# Altium footprint library Connector_IDC.PcbLib: 182 footprints (part 2 of 12)
Each footprint in its own frame and in the unit in brackets; x right, y up, seen from the top. Pads: shape width x height; smd on the part's side, far side on the other; paste and mask are expansions set on the pad; w line width, h text height; cw(c..) or ccw(c..) is an arc to the next point about the centre after c.
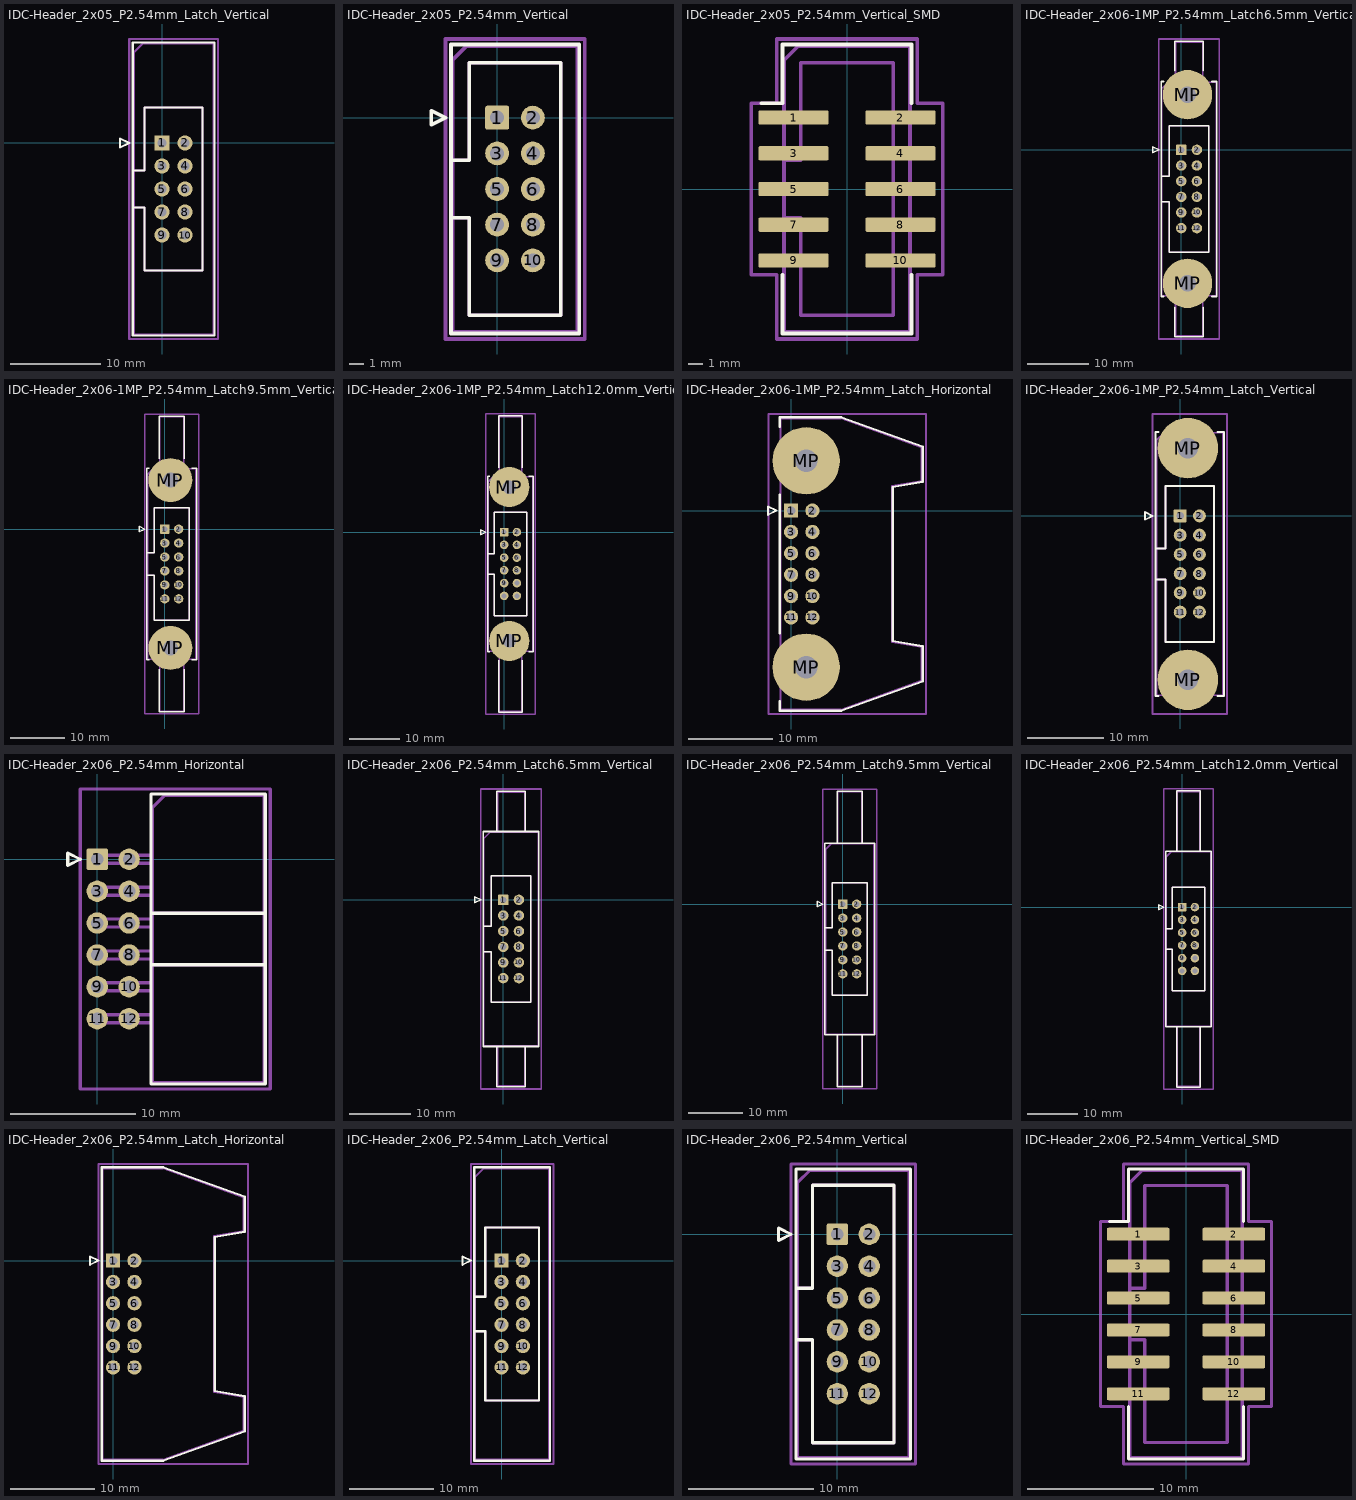
[diagram p1: the footprints below, top view; thin cyan lines are the x and y axes]

## IDC-Header_2x05_P2.54mm_Latch_Vertical [mm]
pads (10):
  rrect15% 1.7x1.7 hole 1: 1(0,0)
  round 1.7 hole 1: 2(2.54,0) 3(0,-2.54) 4(2.54,-2.54) 5(0,-5.08) 6(2.54,-5.08) 7(0,-7.62) 8(2.54,-7.62) 9(0,-10.16) 10(2.54,-10.16)
F.SilkS:
  lines w0.254: -3.24,-7.13 -1.93,-7.13 -1.93,-14.08 4.47,-14.08 4.47,3.92 -1.93,3.92 -1.93,-3.03 -3.24,-3.03 ; -4.63,-0.5 -3.63,0 -4.63,0.5 -4.63,-0.5 ; -3.24,-21.24 5.78,-21.24 5.78,11.08 -3.24,11.08 -3.24,-21.24
Top Assembly:
  lines w0.254: -3.13,-7.13 -1.93,-7.13 -1.93,-14.08 4.47,-14.08 4.47,3.92 -1.93,3.92 -1.93,-3.03 -3.13,-3.03 ; -3.13,-21.13 5.67,-21.13 5.67,10.97 -2.13,10.97 -3.13,9.97 -3.13,-21.13
  text "'.Designator'" at 2.11,-9.127 h1
Top Courtyard:
  lines w0.254: -3.63,-21.63 6.17,-21.63 6.17,11.47 -3.63,11.47 -3.63,-21.63
Top Designator:
  text ".Designator" at -6.848,-5.588 h1.52

## IDC-Header_2x05_P2.54mm_Vertical [mm]
pads (10):
  rrect15% 1.7x1.7 hole 1: 1(0,0)
  round 1.7 hole 1: 2(2.54,0) 3(0,-2.54) 4(2.54,-2.54) 5(0,-5.08) 6(2.54,-5.08) 7(0,-7.62) 8(2.54,-7.62) 9(0,-10.16) 10(2.54,-10.16)
F.SilkS:
  lines w0.254: -3.29,-7.13 -1.98,-7.13 -1.98,-14.07 4.52,-14.07 4.52,3.91 -1.98,3.91 -1.98,-3.03 -3.29,-3.03 ; -4.68,-0.5 -3.68,0 -4.68,0.5 -4.68,-0.5 ; -3.29,-15.37 5.83,-15.37 5.83,5.21 -3.29,5.21 -3.29,-15.37
Top Assembly:
  lines w0.254: -3.18,-7.13 -1.98,-7.13 -1.98,-14.07 4.52,-14.07 4.52,3.91 -1.98,3.91 -1.98,-3.03 -3.18,-3.03 ; -3.18,-15.26 5.72,-15.26 5.72,5.1 -2.18,5.1 -3.18,4.1 -3.18,-15.26
  text "'.Designator'" at 2.11,-9.127 h1
Top Courtyard:
  lines w0.254: -3.68,-15.76 6.22,-15.76 6.22,5.6 -3.68,5.6 -3.68,-15.76
Top Designator:
  text ".Designator" at -6.848,-5.588 h1.52

## IDC-Header_2x05_P2.54mm_Vertical_SMD [mm]
pads (10):
  rrect25% 5x1.02 smd: 1(-3.8,5.08) 2(3.8,5.08) 3(-3.8,2.54) 4(3.8,2.54) 5(-3.8,0) 6(3.8,0) 7(-3.8,-2.54) 8(3.8,-2.54) 9(-3.8,-5.08) 10(3.8,-5.08)
F.SilkS:
  lines w0.254: -6.085,6.09 -4.585,6.09 -4.585,10.27 4.585,10.27 4.585,6.09 ; -4.585,-6.09 -4.585,-10.27 4.585,-10.27 4.585,-6.09
Top Assembly:
  lines w0.254: -4.475,-2.05 -3.275,-2.05 -3.275,-8.96 3.275,-8.96 3.275,8.96 -3.275,8.96 -3.275,2.05 -4.475,2.05 ; -4.475,-10.16 4.475,-10.16 4.475,10.16 -3.475,10.16 -4.475,9.16 -4.475,-10.16
  text "'.Designator'" at 0.84,-4.047 h1
Top Courtyard:
  lines w0.254: -6.8,-6.09 -4.98,-6.09 -4.98,-10.66 4.98,-10.66 4.98,-6.09 6.8,-6.09 6.8,6.09 4.98,6.09 4.98,10.66 -4.98,10.66 -4.98,6.09 -6.8,6.09 -6.8,-6.09
Top Designator:
  text ".Designator" at -7.618,-0.508 h1.52

## IDC-Header_2x06-1MP_P2.54mm_Latch6.5mm_Vertical [mm]
pads (14):
  rrect15% 1.7x1.7 hole 1: 1(0,0)
  round 1.7 hole 1: 2(2.54,0) 3(0,-2.54) 4(2.54,-2.54) 5(0,-5.08) 6(2.54,-5.08) 7(0,-7.62) 8(2.54,-7.62) 9(0,-10.16) 10(2.54,-10.16) 11(0,-12.7) 12(2.54,-12.7)
  round 8 hole 2.69: MP(1.02,-21.64) MP(1.02,8.94)
F.SilkS:
  lines w0.254: -3.24,-8.4 -1.93,-8.4 -1.93,-16.62 4.47,-16.62 4.47,3.92 -1.93,3.92 -1.93,-4.3 -3.24,-4.3 ; -2.87,-23.78 -3.24,-23.78 -3.24,11.08 -2.87,11.08 ; -1.04,-25.53 -1.04,-30.28 3.58,-30.28 3.58,-25.53 ; -1.04,12.83 -1.04,17.58 3.58,17.58 3.58,12.83 ; 4.91,-23.78 5.78,-23.78 5.78,11.08 4.91,11.08 ; -4.63,-0.5 -3.63,0 -4.63,0.5 -4.63,-0.5
Top Assembly:
  lines w0.254: -3.13,-8.4 -1.93,-8.4 -1.93,-16.62 4.47,-16.62 4.47,3.92 -1.93,3.92 -1.93,-4.3 -3.13,-4.3 ; -0.93,-23.67 -0.93,-30.17 3.47,-30.17 3.47,-23.67 ; -0.93,10.97 -0.93,17.47 3.47,17.47 3.47,10.97 ; -3.13,-23.67 5.67,-23.67 5.67,10.97 -2.13,10.97 -3.13,9.97 -3.13,-23.67
  text "'.Designator'" at 2.11,-10.397 h1
Top Courtyard:
  lines w0.254: -3.63,-30.67 6.17,-30.67 6.17,17.97 -3.63,17.97 -3.63,-30.67
Top Designator:
  text ".Designator" at -6.848,-6.858 h1.52

## IDC-Header_2x06-1MP_P2.54mm_Latch9.5mm_Vertical [mm]
pads (14):
  rrect15% 1.7x1.7 hole 1: 1(0,0)
  round 1.7 hole 1: 2(2.54,0) 3(0,-2.54) 4(2.54,-2.54) 5(0,-5.08) 6(2.54,-5.08) 7(0,-7.62) 8(2.54,-7.62) 9(0,-10.16) 10(2.54,-10.16) 11(0,-12.7) 12(2.54,-12.7)
  round 8 hole 2.69: MP(1.02,-21.64) MP(1.02,8.94)
F.SilkS:
  lines w0.254: -3.24,-8.4 -1.93,-8.4 -1.93,-16.62 4.47,-16.62 4.47,3.92 -1.93,3.92 -1.93,-4.3 -3.24,-4.3 ; -2.87,-23.78 -3.24,-23.78 -3.24,11.08 -2.87,11.08 ; -1.04,-25.53 -1.04,-33.28 3.58,-33.28 3.58,-25.53 ; -1.04,12.83 -1.04,20.58 3.58,20.58 3.58,12.83 ; 4.91,-23.78 5.78,-23.78 5.78,11.08 4.91,11.08 ; -4.63,-0.5 -3.63,0 -4.63,0.5 -4.63,-0.5
Top Assembly:
  lines w0.254: -3.13,-8.4 -1.93,-8.4 -1.93,-16.62 4.47,-16.62 4.47,3.92 -1.93,3.92 -1.93,-4.3 -3.13,-4.3 ; -0.93,-23.67 -0.93,-33.17 3.47,-33.17 3.47,-23.67 ; -0.93,10.97 -0.93,20.47 3.47,20.47 3.47,10.97 ; -3.13,-23.67 5.67,-23.67 5.67,10.97 -2.13,10.97 -3.13,9.97 -3.13,-23.67
  text "'.Designator'" at 2.11,-10.397 h1
Top Courtyard:
  lines w0.254: -3.63,-33.67 6.17,-33.67 6.17,20.97 -3.63,20.97 -3.63,-33.67
Top Designator:
  text ".Designator" at -6.848,-6.858 h1.52

## IDC-Header_2x06-1MP_P2.54mm_Latch12.0mm_Vertical [mm]
pads (14):
  rrect15% 1.7x1.7 hole 1: 1(0,0)
  round 1.7 hole 1: 2(2.54,0) 3(0,-2.54) 4(2.54,-2.54) 5(0,-5.08) 6(2.54,-5.08) 7(0,-7.62) 8(2.54,-7.62) 9(0,-10.16) 10(2.54,-10.16) 11(0,-12.7) 12(2.54,-12.7)
  round 8 hole 2.69: MP(1.02,-21.64) MP(1.02,8.94)
F.SilkS:
  lines w0.254: -3.24,-8.4 -1.93,-8.4 -1.93,-16.62 4.47,-16.62 4.47,3.92 -1.93,3.92 -1.93,-4.3 -3.24,-4.3 ; -2.87,-23.78 -3.24,-23.78 -3.24,11.08 -2.87,11.08 ; -1.04,-25.53 -1.04,-35.78 3.58,-35.78 3.58,-25.53 ; -1.04,12.83 -1.04,23.08 3.58,23.08 3.58,12.83 ; 4.91,-23.78 5.78,-23.78 5.78,11.08 4.91,11.08 ; -4.63,-0.5 -3.63,0 -4.63,0.5 -4.63,-0.5
Top Assembly:
  lines w0.254: -3.13,-8.4 -1.93,-8.4 -1.93,-16.62 4.47,-16.62 4.47,3.92 -1.93,3.92 -1.93,-4.3 -3.13,-4.3 ; -0.93,-23.67 -0.93,-35.67 3.47,-35.67 3.47,-23.67 ; -0.93,10.97 -0.93,22.97 3.47,22.97 3.47,10.97 ; -3.13,-23.67 5.67,-23.67 5.67,10.97 -2.13,10.97 -3.13,9.97 -3.13,-23.67
  text "'.Designator'" at 2.11,-10.397 h1
Top Courtyard:
  lines w0.254: -3.63,-36.17 6.17,-36.17 6.17,23.47 -3.63,23.47 -3.63,-36.17
Top Designator:
  text ".Designator" at -6.848,-6.858 h1.52

## IDC-Header_2x06-1MP_P2.54mm_Latch_Horizontal [mm]
pads (14):
  rrect15% 1.7x1.7 hole 1: 1(0,0)
  round 1.7 hole 1: 2(2.54,0) 3(0,-2.54) 4(2.54,-2.54) 5(0,-5.08) 6(2.54,-5.08) 7(0,-7.62) 8(2.54,-7.62) 9(0,-10.16) 10(2.54,-10.16) 11(0,-12.7) 12(2.54,-12.7)
  round 8 hole 2.69: MP(1.8,-18.605) MP(1.8,5.905)
F.SilkS:
  lines w0.254: -1.35,-22.605 -1.35,-23.78 5.98,-23.78 15.64,-20.31 15.64,-16.12 12.08,-15.49 12.08,2.79 15.64,3.42 15.64,7.61 5.98,11.08 -1.35,11.08 -1.35,9.905 ; -1.35,-14.605 -1.35,1.905 ; -2.74,-0.5 -1.74,0 -2.74,0.5 -2.74,-0.5
Top Assembly:
  lines w0.254: -1.24,-23.67 5.87,-23.67 15.53,-20.2 15.53,-16.23 11.97,-15.6 11.97,2.9 15.53,3.53 15.53,7.5 5.87,10.97 -1.24,10.97 -1.24,-23.67
  text "'.Designator'" at 7.985,-10.397 h1
Top Courtyard:
  lines w0.254: -2.7,-24.17 16.03,-24.17 16.03,11.47 -2.7,11.47 -2.7,-24.17
Top Designator:
  text ".Designator" at -0.973,-6.858 h1.52

## IDC-Header_2x06-1MP_P2.54mm_Latch_Vertical [mm]
pads (14):
  rrect15% 1.7x1.7 hole 1: 1(0,0)
  round 1.7 hole 1: 2(2.54,0) 3(0,-2.54) 4(2.54,-2.54) 5(0,-5.08) 6(2.54,-5.08) 7(0,-7.62) 8(2.54,-7.62) 9(0,-10.16) 10(2.54,-10.16) 11(0,-12.7) 12(2.54,-12.7)
  round 8 hole 2.69: MP(1.02,-21.64) MP(1.02,8.94)
F.SilkS:
  lines w0.254: -3.24,-8.4 -1.93,-8.4 -1.93,-16.62 4.47,-16.62 4.47,3.92 -1.93,3.92 -1.93,-4.3 -3.24,-4.3 ; -2.87,-23.78 -3.24,-23.78 -3.24,11.08 -2.87,11.08 ; 4.91,-23.78 5.78,-23.78 5.78,11.08 4.91,11.08 ; -4.63,-0.5 -3.63,0 -4.63,0.5 -4.63,-0.5
Top Assembly:
  lines w0.254: -3.13,-8.4 -1.93,-8.4 -1.93,-16.62 4.47,-16.62 4.47,3.92 -1.93,3.92 -1.93,-4.3 -3.13,-4.3 ; -3.13,-23.67 5.67,-23.67 5.67,10.97 -2.13,10.97 -3.13,9.97 -3.13,-23.67
  text "'.Designator'" at 2.11,-10.397 h1
Top Courtyard:
  lines w0.254: -3.63,-26.14 6.17,-26.14 6.17,13.44 -3.63,13.44 -3.63,-26.14
Top Designator:
  text ".Designator" at -6.848,-6.858 h1.52

## IDC-Header_2x06_P2.54mm_Horizontal [mm]
pads (12):
  rrect15% 1.7x1.7 hole 1: 1(0,0)
  round 1.7 hole 1: 2(2.54,0) 3(0,-2.54) 4(2.54,-2.54) 5(0,-5.08) 6(2.54,-5.08) 7(0,-7.62) 8(2.54,-7.62) 9(0,-10.16) 10(2.54,-10.16) 11(0,-12.7) 12(2.54,-12.7)
F.SilkS:
  lines w0.254: 4.27,-8.4 13.39,-8.4 ; 4.27,-4.3 13.39,-4.3 ; -2.35,-0.5 -1.35,0 -2.35,0.5 -2.35,-0.5 ; 4.27,-17.91 13.39,-17.91 13.39,5.21 4.27,5.21 4.27,-17.91
Top Assembly:
  lines w0.254: 4.38,-13.02 -0.32,-13.02 -0.32,-12.38 4.38,-12.38 ; 4.38,-10.48 -0.32,-10.48 -0.32,-9.84 4.38,-9.84 ; 4.38,-8.4 13.28,-8.4 ; 4.38,-7.94 -0.32,-7.94 -0.32,-7.3 4.38,-7.3 ; 4.38,-5.4 -0.32,-5.4 -0.32,-4.76 4.38,-4.76 ; 4.38,-4.3 13.28,-4.3 ; 4.38,-2.86 -0.32,-2.86 -0.32,-2.22 4.38,-2.22 ; 4.38,-0.32 -0.32,-0.32 -0.32,0.32 4.38,0.32 ; 4.38,-17.8 13.28,-17.8 13.28,5.1 5.38,5.1 4.38,4.1 4.38,-17.8
  text "'.Designator'" at 9.67,-10.397 h1
Top Courtyard:
  lines w0.254: -1.35,-18.3 13.78,-18.3 13.78,5.6 -1.35,5.6 -1.35,-18.3
Top Designator:
  text ".Designator" at -1.903,-6.858 h1.52

## IDC-Header_2x06_P2.54mm_Latch6.5mm_Vertical [mm]
pads (12):
  rrect15% 1.7x1.7 hole 1: 1(0,0)
  round 1.7 hole 1: 2(2.54,0) 3(0,-2.54) 4(2.54,-2.54) 5(0,-5.08) 6(2.54,-5.08) 7(0,-7.62) 8(2.54,-7.62) 9(0,-10.16) 10(2.54,-10.16) 11(0,-12.7) 12(2.54,-12.7)
F.SilkS:
  lines w0.254: -3.24,-8.4 -1.93,-8.4 -1.93,-16.62 4.47,-16.62 4.47,3.92 -1.93,3.92 -1.93,-4.3 -3.24,-4.3 ; -1.04,-23.78 -1.04,-30.28 3.58,-30.28 3.58,-23.78 ; -1.04,11.08 -1.04,17.58 3.58,17.58 3.58,11.08 ; -4.63,-0.5 -3.63,0 -4.63,0.5 -4.63,-0.5 ; -3.24,-23.78 5.78,-23.78 5.78,11.08 -3.24,11.08 -3.24,-23.78
Top Assembly:
  lines w0.254: -3.13,-8.4 -1.93,-8.4 -1.93,-16.62 4.47,-16.62 4.47,3.92 -1.93,3.92 -1.93,-4.3 -3.13,-4.3 ; -0.93,-23.67 -0.93,-30.17 3.47,-30.17 3.47,-23.67 ; -0.93,10.97 -0.93,17.47 3.47,17.47 3.47,10.97 ; -3.13,-23.67 5.67,-23.67 5.67,10.97 -2.13,10.97 -3.13,9.97 -3.13,-23.67
  text "'.Designator'" at 2.11,-10.397 h1
Top Courtyard:
  lines w0.254: -3.63,-30.67 6.17,-30.67 6.17,17.97 -3.63,17.97 -3.63,-30.67
Top Designator:
  text ".Designator" at -6.848,-6.858 h1.52

## IDC-Header_2x06_P2.54mm_Latch9.5mm_Vertical [mm]
pads (12):
  rrect15% 1.7x1.7 hole 1: 1(0,0)
  round 1.7 hole 1: 2(2.54,0) 3(0,-2.54) 4(2.54,-2.54) 5(0,-5.08) 6(2.54,-5.08) 7(0,-7.62) 8(2.54,-7.62) 9(0,-10.16) 10(2.54,-10.16) 11(0,-12.7) 12(2.54,-12.7)
F.SilkS:
  lines w0.254: -3.24,-8.4 -1.93,-8.4 -1.93,-16.62 4.47,-16.62 4.47,3.92 -1.93,3.92 -1.93,-4.3 -3.24,-4.3 ; -1.04,-23.78 -1.04,-33.28 3.58,-33.28 3.58,-23.78 ; -1.04,11.08 -1.04,20.58 3.58,20.58 3.58,11.08 ; -4.63,-0.5 -3.63,0 -4.63,0.5 -4.63,-0.5 ; -3.24,-23.78 5.78,-23.78 5.78,11.08 -3.24,11.08 -3.24,-23.78
Top Assembly:
  lines w0.254: -3.13,-8.4 -1.93,-8.4 -1.93,-16.62 4.47,-16.62 4.47,3.92 -1.93,3.92 -1.93,-4.3 -3.13,-4.3 ; -0.93,-23.67 -0.93,-33.17 3.47,-33.17 3.47,-23.67 ; -0.93,10.97 -0.93,20.47 3.47,20.47 3.47,10.97 ; -3.13,-23.67 5.67,-23.67 5.67,10.97 -2.13,10.97 -3.13,9.97 -3.13,-23.67
  text "'.Designator'" at 2.11,-10.397 h1
Top Courtyard:
  lines w0.254: -3.63,-33.67 6.17,-33.67 6.17,20.97 -3.63,20.97 -3.63,-33.67
Top Designator:
  text ".Designator" at -6.848,-6.858 h1.52

## IDC-Header_2x06_P2.54mm_Latch12.0mm_Vertical [mm]
pads (12):
  rrect15% 1.7x1.7 hole 1: 1(0,0)
  round 1.7 hole 1: 2(2.54,0) 3(0,-2.54) 4(2.54,-2.54) 5(0,-5.08) 6(2.54,-5.08) 7(0,-7.62) 8(2.54,-7.62) 9(0,-10.16) 10(2.54,-10.16) 11(0,-12.7) 12(2.54,-12.7)
F.SilkS:
  lines w0.254: -3.24,-8.4 -1.93,-8.4 -1.93,-16.62 4.47,-16.62 4.47,3.92 -1.93,3.92 -1.93,-4.3 -3.24,-4.3 ; -1.04,-23.78 -1.04,-35.78 3.58,-35.78 3.58,-23.78 ; -1.04,11.08 -1.04,23.08 3.58,23.08 3.58,11.08 ; -4.63,-0.5 -3.63,0 -4.63,0.5 -4.63,-0.5 ; -3.24,-23.78 5.78,-23.78 5.78,11.08 -3.24,11.08 -3.24,-23.78
Top Assembly:
  lines w0.254: -3.13,-8.4 -1.93,-8.4 -1.93,-16.62 4.47,-16.62 4.47,3.92 -1.93,3.92 -1.93,-4.3 -3.13,-4.3 ; -0.93,-23.67 -0.93,-35.67 3.47,-35.67 3.47,-23.67 ; -0.93,10.97 -0.93,22.97 3.47,22.97 3.47,10.97 ; -3.13,-23.67 5.67,-23.67 5.67,10.97 -2.13,10.97 -3.13,9.97 -3.13,-23.67
  text "'.Designator'" at 2.11,-10.397 h1
Top Courtyard:
  lines w0.254: -3.63,-36.17 6.17,-36.17 6.17,23.47 -3.63,23.47 -3.63,-36.17
Top Designator:
  text ".Designator" at -6.848,-6.858 h1.52

## IDC-Header_2x06_P2.54mm_Latch_Horizontal [mm]
pads (12):
  rrect15% 1.7x1.7 hole 1: 1(0,0)
  round 1.7 hole 1: 2(2.54,0) 3(0,-2.54) 4(2.54,-2.54) 5(0,-5.08) 6(2.54,-5.08) 7(0,-7.62) 8(2.54,-7.62) 9(0,-10.16) 10(2.54,-10.16) 11(0,-12.7) 12(2.54,-12.7)
F.SilkS:
  lines w0.254: -2.74,-0.5 -1.74,0 -2.74,0.5 -2.74,-0.5 ; -1.35,-23.78 5.98,-23.78 15.64,-20.31 15.64,-16.12 12.08,-15.49 12.08,2.79 15.64,3.42 15.64,7.61 5.98,11.08 -1.35,11.08 -1.35,-23.78
Top Assembly:
  lines w0.254: -1.24,-23.67 5.87,-23.67 15.53,-20.2 15.53,-16.23 11.97,-15.6 11.97,2.9 15.53,3.53 15.53,7.5 5.87,10.97 -1.24,10.97 -1.24,-23.67
  text "'.Designator'" at 7.985,-10.397 h1
Top Courtyard:
  lines w0.254: -1.74,-24.17 16.03,-24.17 16.03,11.47 -1.74,11.47 -1.74,-24.17
Top Designator:
  text ".Designator" at -0.973,-6.858 h1.52

## IDC-Header_2x06_P2.54mm_Latch_Vertical [mm]
pads (12):
  rrect15% 1.7x1.7 hole 1: 1(0,0)
  round 1.7 hole 1: 2(2.54,0) 3(0,-2.54) 4(2.54,-2.54) 5(0,-5.08) 6(2.54,-5.08) 7(0,-7.62) 8(2.54,-7.62) 9(0,-10.16) 10(2.54,-10.16) 11(0,-12.7) 12(2.54,-12.7)
F.SilkS:
  lines w0.254: -3.24,-8.4 -1.93,-8.4 -1.93,-16.62 4.47,-16.62 4.47,3.92 -1.93,3.92 -1.93,-4.3 -3.24,-4.3 ; -4.63,-0.5 -3.63,0 -4.63,0.5 -4.63,-0.5 ; -3.24,-23.78 5.78,-23.78 5.78,11.08 -3.24,11.08 -3.24,-23.78
Top Assembly:
  lines w0.254: -3.13,-8.4 -1.93,-8.4 -1.93,-16.62 4.47,-16.62 4.47,3.92 -1.93,3.92 -1.93,-4.3 -3.13,-4.3 ; -3.13,-23.67 5.67,-23.67 5.67,10.97 -2.13,10.97 -3.13,9.97 -3.13,-23.67
  text "'.Designator'" at 2.11,-10.397 h1
Top Courtyard:
  lines w0.254: -3.63,-24.17 6.17,-24.17 6.17,11.47 -3.63,11.47 -3.63,-24.17
Top Designator:
  text ".Designator" at -6.848,-6.858 h1.52

## IDC-Header_2x06_P2.54mm_Vertical [mm]
pads (12):
  rrect15% 1.7x1.7 hole 1: 1(0,0)
  round 1.7 hole 1: 2(2.54,0) 3(0,-2.54) 4(2.54,-2.54) 5(0,-5.08) 6(2.54,-5.08) 7(0,-7.62) 8(2.54,-7.62) 9(0,-10.16) 10(2.54,-10.16) 11(0,-12.7) 12(2.54,-12.7)
F.SilkS:
  lines w0.254: -3.29,-8.4 -1.98,-8.4 -1.98,-16.61 4.52,-16.61 4.52,3.91 -1.98,3.91 -1.98,-4.3 -3.29,-4.3 ; -4.68,-0.5 -3.68,0 -4.68,0.5 -4.68,-0.5 ; -3.29,-17.91 5.83,-17.91 5.83,5.21 -3.29,5.21 -3.29,-17.91
Top Assembly:
  lines w0.254: -3.18,-8.4 -1.98,-8.4 -1.98,-16.61 4.52,-16.61 4.52,3.91 -1.98,3.91 -1.98,-4.3 -3.18,-4.3 ; -3.18,-17.8 5.72,-17.8 5.72,5.1 -2.18,5.1 -3.18,4.1 -3.18,-17.8
  text "'.Designator'" at 2.11,-10.397 h1
Top Courtyard:
  lines w0.254: -3.68,-18.3 6.22,-18.3 6.22,5.6 -3.68,5.6 -3.68,-18.3
Top Designator:
  text ".Designator" at -6.848,-6.858 h1.52

## IDC-Header_2x06_P2.54mm_Vertical_SMD [mm]
pads (12):
  rrect25% 5x1.02 smd: 1(-3.8,6.35) 2(3.8,6.35) 3(-3.8,3.81) 4(3.8,3.81) 5(-3.8,1.27) 6(3.8,1.27) 7(-3.8,-1.27) 8(3.8,-1.27) 9(-3.8,-3.81) 10(3.8,-3.81) 11(-3.8,-6.35) 12(3.8,-6.35)
F.SilkS:
  lines w0.254: -6.085,7.36 -4.585,7.36 -4.585,11.54 4.585,11.54 4.585,7.36 ; -4.585,-7.36 -4.585,-11.54 4.585,-11.54 4.585,-7.36
Top Assembly:
  lines w0.254: -4.475,-2.05 -3.275,-2.05 -3.275,-10.23 3.275,-10.23 3.275,10.23 -3.275,10.23 -3.275,2.05 -4.475,2.05 ; -4.475,-11.43 4.475,-11.43 4.475,11.43 -3.475,11.43 -4.475,10.43 -4.475,-11.43
  text "'.Designator'" at 0.84,-4.047 h1
Top Courtyard:
  lines w0.254: -6.8,-7.36 -4.98,-7.36 -4.98,-11.93 4.98,-11.93 4.98,-7.36 6.8,-7.36 6.8,7.36 4.98,7.36 4.98,11.93 -4.98,11.93 -4.98,7.36 -6.8,7.36 -6.8,-7.36
Top Designator:
  text ".Designator" at -7.618,-0.508 h1.52